# Altium footprint library PWR578A.PcbLib: 62 footprints (part 2 of 4)
Each footprint in its own frame and in the unit in brackets; x right, y up, seen from the top. Pads: shape width x height; smd on the part's side, far side on the other; paste and mask are expansions set on the pad; w line width, h text height; cw(c..) or ccw(c..) is an arc to the next point about the centre after c.
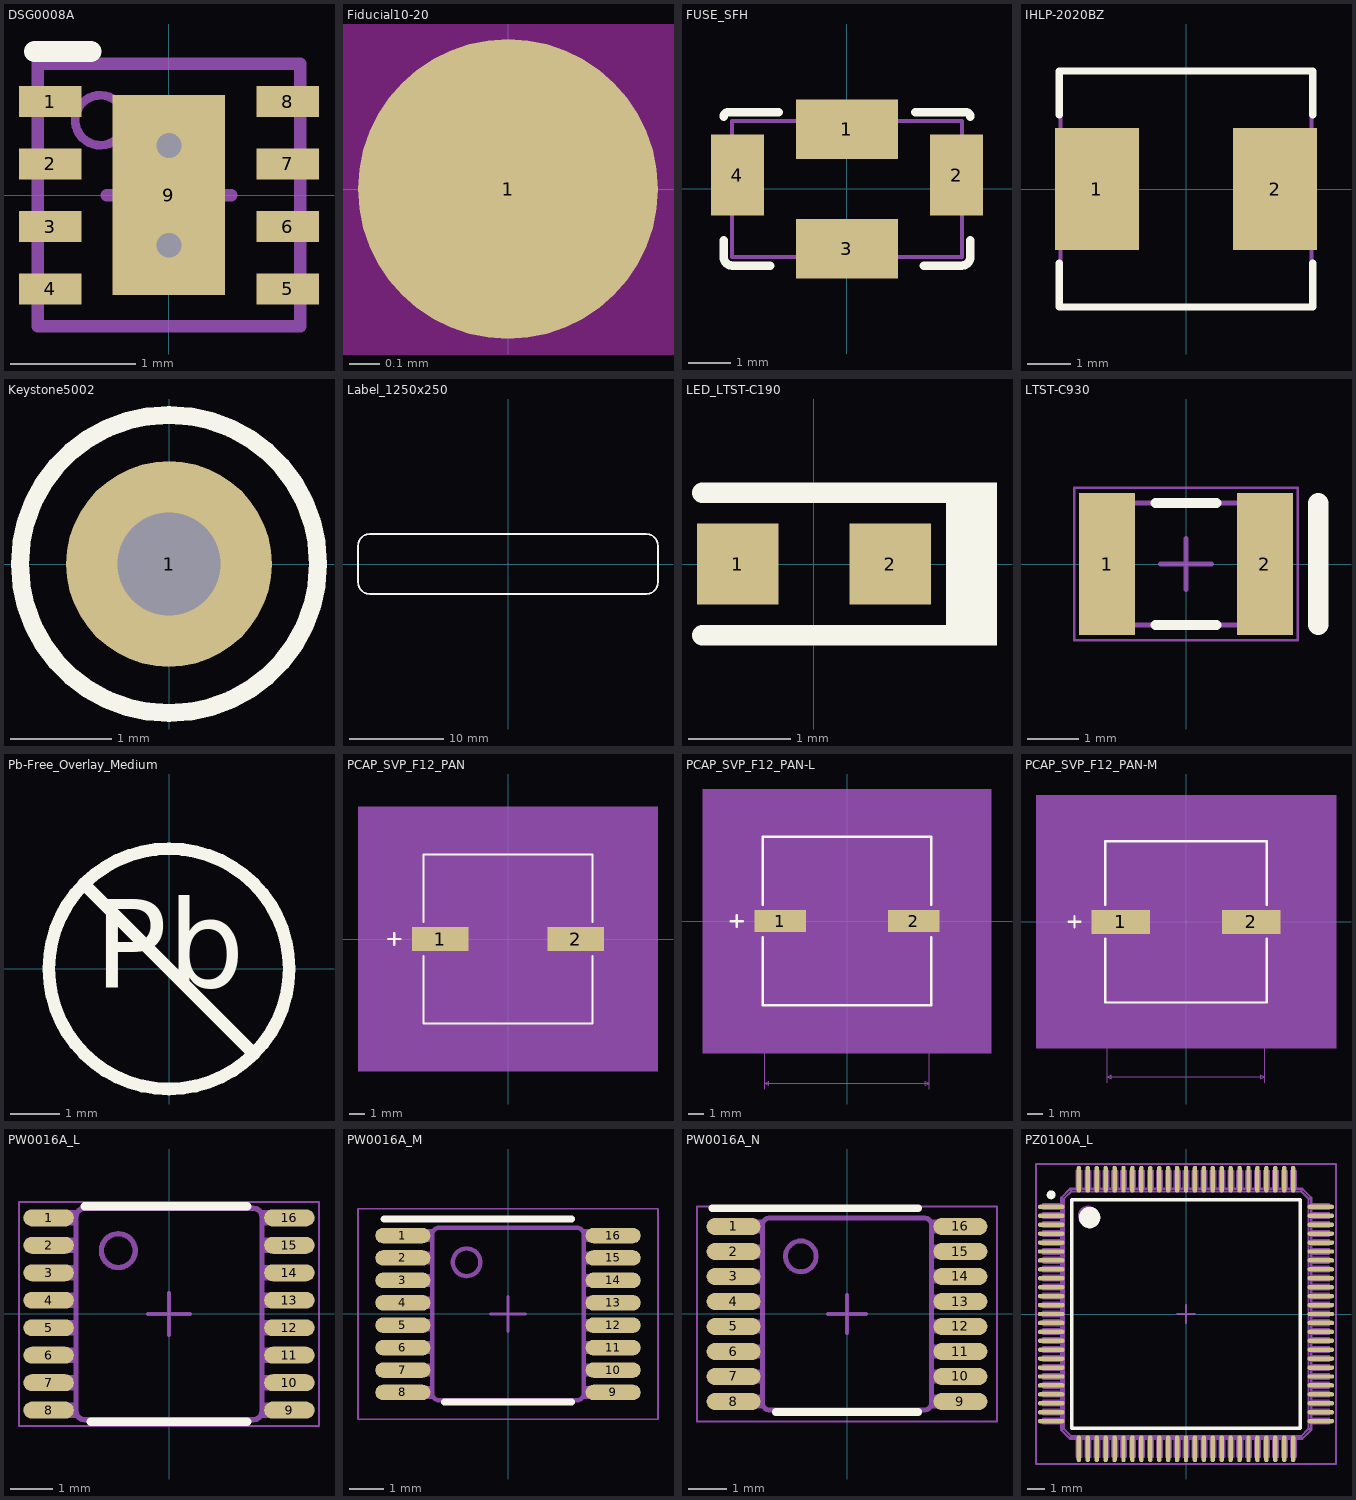
[diagram p1: the footprints below, top view; thin cyan lines are the x and y axes]

## DSG0008A [mm]
pads (9):
  rect 0.5x0.25 smd paste-0.14 mask+0.07: 1(-0.95,0.75) 2(-0.95,0.25) 3(-0.95,-0.25) 4(-0.95,-0.75) 5(0.95,-0.75) 6(0.95,-0.25) 7(0.95,0.25) 8(0.95,0.75)
  rect 0.9x1.6 smd paste-0.45 mask+0.07: 9(0,0)
via 0,0.4 diameter 0.5 hole 0.2
via 0,-0.4 diameter 0.5 hole 0.2
Top Overlay:
  lines w0.17: -1.075,1.15 -0.625,1.15
Top Paste:
  rectangle: 0.7,0.625 1.2,0.875
  rectangle: -0.35,-0.65 0.35,0.65
  rectangle: 0.7,0.125 1.2,0.375
  rectangle: 0.7,-0.875 1.2,-0.625
  rectangle: 0.7,-0.375 1.2,-0.125
  rectangle: -1.199,0.625 -0.699,0.875
  rectangle: -1.199,0.125 -0.699,0.375
  rectangle: -1.2,-0.875 -0.7,-0.625
  rectangle: -1.2,-0.375 -0.7,-0.125
Mechanical 5:
  circle w0.07: c-0.55,0.6 r0.2
  lines w0.1: -1.05,-1.05 1.05,-1.05 1.05,1.05 -1.05,1.05 -1.05,-1.05
  text ".Designator" at -0.925,-0.25 h0.51
Mechanical 15:
  lines w0.1: -0.5,0 0.5,0 ; 0,-0.5 0,0.5
3D body: height 0.8, standoff 0.5, extent -0.749,0.401 -0.351,0.799
3D body: height 0.8, standoff 0, extent -1.05,-1.05 1.05,1.05

## Fiducial10-20 [mm]
pads (1):
  round 1 smd paste-0.5 mask+0.5: 1(0,0)
Top Layer keep-out:
  circle w1.178: c0,0 r0.5

## FUSE_SFH [mm]
pads (4):
  rect 2.4x1.4 smd: 1(0,1.4) 3(0,-1.4)
  rect 1.25x1.9 smd: 2(2.575,0.325) 4(-2.575,0.325)
Top Overlay:
  lines w0.2: -2.9,-1.2 -2.9,-1.6 ccw(c-2.7,-1.6) -2.7,-1.8 -1.8,-1.8 ; -2.9,1.7 cw(c-2.8,1.7) -2.8,1.8 -1.6,1.8 ; 1.6,1.8 2.7,1.8 2.8,1.8 cw(c2.8,1.7) 2.9,1.7 ; 1.8,-1.8 2.7,-1.8 ccw(c2.7,-1.6) 2.9,-1.6 2.9,-1.2
Mechanical 5:
  lines w0.1: -2.7,-1.6 -2.7,1.6 2.7,1.6 2.7,-1.6 -2.7,-1.6
  text ".Designator" at -1.7,-0.4 h1.02
3D body: height 1.35, standoff 0, extent -2.7,-1.6 2.7,1.6
3D body: height 1.36, standoff 1.35, extent -0.2,1.05 0.2,1.45

## IHLP-2020BZ [mm]
pads (2):
  rect 1.915x2.79 smd: 1(-2.037,0) 2(2.037,0)
Top Overlay:
  lines w0.17: -2.9,-1.7 -2.9,-2.7 2.9,-2.7 2.9,-1.7 ; -2.9,1.7 -2.9,2.7 2.9,2.7 2.9,1.7
Mechanical 5:
  lines w0.1: -2.872,-2.717 2.872,-2.717 2.872,2.717 -2.872,2.717 -2.872,-2.717
  text ".Designator" at -1.8,-0.5 h1.02
3D body: height 2, standoff 0, extent -2.871,-2.716 2.871,2.716

## Keystone5002 [mil]
pads (1):
  round 80 hole 40: 1(0,0)
Top Overlay:
  circle w7: c0,0 r58
Mechanical 5:
  circle w5: c0,0 r58.31
  text ".Designator" at -45,-10 h30
3D body "Keystone_5002.stp": height 181.97, standoff -118.11, extent -49,-49 49.04,49.23

## Label_1250x250 [mil]
pads (1):
  round 1 on Mech13: 0(0,0)
Top Overlay:
  lines w7: -625,-75 ccw(c-575,-75) -575,-125 575,-125 ccw(c575,-75) 625,-75 625,75 ccw(c575,75) 575,125 -575,125 ccw(c-575,75) -625,75 -625,-75
Mechanical 5:
  lines w5: -625,-75 ccw(c-575,-75) -575,-125 575,-125 ccw(c575,-75) 625,-75 625,75 ccw(c575,75) 575,125 -575,125 ccw(c-575,75) -625,75 -625,-75
  text ".Designator" at -60,-20 h40
3D body: height 1, standoff 0, extent -625.02,-125.02 625.02,125.02

## LED_LTST-C190 [mm]
pads (2):
  rect 0.8x0.8 smd: 1(-0.75,0) 2(0.75,0)
Top Overlay:
  region: 1.8,0.8 1.3,0.8 1.3,-0.8 1.8,-0.8
  lines w0.2: -1.1,-0.7 1.4,-0.7 ; -1.1,0.7 1.4,0.7
Mechanical 5:
  region: 1.8,0.75 1.3,0.75 1.3,-0.75 1.8,-0.75
  lines w0.1: -1.1,-0.7 1.4,-0.7 ; -1.1,0.7 1.4,0.7
  text ".Designator" at -1.2,-0.3 h0.64
3D body "Lite-On_LTST_C190.stp": height 0.9, standoff 0, extent -0.85,-0.45 0.85,0.45

## LTST-C930 [mm] "SMD, 2-Leads, Body 3.2x2.4mm"
height 2.5
pads (2):
  rect 1.1x2.8 smd: 1(-1.55,0) 2(1.55,0)
Top Overlay:
  lines w0.2: -0.6,-1.2 0.6,-1.2 ; -0.6,1.2 0.6,1.2
  lines w0.4: 2.6,-1.2 2.6,1.2
Mechanical 13:
  lines w0.1: -1.6,-1.2 -1.6,1.2 1.6,1.2 1.6,-1.2 -1.6,-1.2
Mechanical 15:
  lines w0.05: -2.2,-1.5 2.2,-1.5 2.2,1.5 -2.2,1.5 -2.2,-1.5
  lines w0.1: -0.5,0 0.5,0 ; 0,-0.5 0,0.5
3D body: height 2.5, standoff 0, extent -1.1,-1.2 1.1,1.2
3D body: height 1, standoff 0, extent -1.6,-1.2 1.6,1.2

## Pb-Free_Overlay_Medium [mm]
Top Overlay:
  circle w0.254: c0,0 r2.413
  lines w0.254: -1.706,1.706 1.706,-1.706
  text "Pb" at -1.505,-0.961 h3.05

## PCAP_SVP_F12_PAN [mil]
pads (2):
  rect 142x59 smd paste+0 mask+0: 1(-169.5,0) 2(169.5,0)
Top Overlay:
  lines w6: -299.5,0 -269.5,0 ; -284.5,-15 -284.5,15 ; -211.5,-42.6 -211.5,-211.5 211.5,-211.5 211.5,-42.6 ; -211.5,42.6 -211.5,211.5 211.5,211.5 211.5,42.6
Mechanical 5:
  region: 375.5,-331.5 -375.5,-331.5 -375.5,331.5 375.5,331.5
Mechanical 7:
  lines w1: -321.5,-206.5 -206.5,-206.5 ; -321.5,206.5 -206.5,206.5 ; -270.5,-306.5 -220.5,-306.5 ; -220.5,-321.5 -220.5,-39.5 ; -220.5,39.5 -220.5,321.5 ; -94.5,-321.5 -94.5,-19.5 ; -44.5,-306.5 -94.5,-306.5 ; 220.5,39.5 220.5,321.5 ; 250.5,-21.5 355.5,-21.5 ; 250.5,21.5 355.5,21.5 ; 340.5,-71.5 340.5,-21.5 ; 340.5,71.5 340.5,21.5 ; -306.5,-206.5 -301.5,-196.5 -311.5,-196.5 -306.5,-206.5 ; -306.5,-206.5 -306.5,206.5 ; -306.5,206.5 -301.5,196.5 -311.5,196.5 -306.5,206.5 ; -220.5,-306.5 -230.5,-311.5 -230.5,-301.5 -220.5,-306.5 ; -220.5,306.5 -210.5,301.5 -210.5,311.5 -220.5,306.5 ; -220.5,306.5 220.5,306.5 ; -94.5,-306.5 -84.5,-311.5 -84.5,-301.5 -94.5,-306.5 ; 220.5,306.5 210.5,301.5 210.5,311.5 220.5,306.5 ; 340.5,-21.5 345.5,-31.5 335.5,-31.5 340.5,-21.5 ; 340.5,21.5 345.5,31.5 335.5,31.5 340.5,21.5
  text "0.126in/3.2mm" at -238.75,-351.5 h25
  text "0.441in/11.201mm" at -100,326.5 h25
Mechanical 13:
  lines w1: -299.5,0 -269.5,0 ; -284.5,-15 -284.5,15 ; -206.5,-103.25 -103.25,-206.5 ; -206.5,103.25 -103.25,206.5 ; -206.5,-206.5 -206.5,206.5 206.5,206.5 206.5,-206.5 -206.5,-206.5
Mechanical 15:
  region: -216.5,-39.5 -250.5,-39.5 -250.5,39.5 -216.5,39.5 -216.5,216.5 216.5,216.5 216.5,39.5 250.5,39.5 250.5,-39.5 216.5,-39.5 216.5,-216.5 -216.5,-216.5
  lines w6: -250.5,-39.5 -216.5,-39.5 -216.5,-216.5 216.5,-216.5 216.5,-39.5 250.5,-39.5 250.5,39.5 216.5,39.5 216.5,216.5 -216.5,216.5 -216.5,39.5 -250.5,39.5 -250.5,-39.5
3D body: height 10, standoff 0, extent 0,0 10,10

## PCAP_SVP_F12_PAN-L [mil]
pads (2):
  rect 130x55 smd paste+0 mask+0: 1(-167.5,0) 2(167.5,0)
Top Overlay:
  lines w6: -291.5,0 -261.5,0 ; -276.5,-15 -276.5,15 ; -211.5,-40.6 -211.5,-211.5 211.5,-211.5 211.5,-40.6 ; -211.5,40.6 -211.5,211.5 211.5,211.5 211.5,40.6
Mechanical 5:
  region: 361.5,-331.5 -361.5,-331.5 -361.5,331.5 361.5,331.5
Mechanical 7:
  lines w1: -321.5,-206.5 -206.5,-206.5 -206.5,-421.5 ; -321.5,206.5 -206.5,206.5 ; -270.5,-306.5 -220.5,-306.5 ; -220.5,-321.5 -220.5,-37.5 ; -220.5,37.5 -220.5,321.5 ; -94.5,-321.5 -94.5,-17.5 ; -44.5,-306.5 -94.5,-306.5 ; 206.5,-421.5 206.5,-206.5 ; 220.5,37.5 220.5,321.5 ; 242.5,-21.5 347.5,-21.5 ; 242.5,21.5 347.5,21.5 ; 332.5,-71.5 332.5,-21.5 ; 332.5,71.5 332.5,21.5 ; -306.5,-206.5 -301.5,-196.5 -311.5,-196.5 -306.5,-206.5 ; -306.5,-206.5 -306.5,206.5 ; -306.5,206.5 -301.5,196.5 -311.5,196.5 -306.5,206.5 ; -220.5,-306.5 -230.5,-311.5 -230.5,-301.5 -220.5,-306.5 ; -220.5,306.5 -210.5,301.5 -210.5,311.5 -220.5,306.5 ; -220.5,306.5 220.5,306.5 ; -206.5,-406.5 -196.5,-411.5 -196.5,-401.5 -206.5,-406.5 ; -206.5,-406.5 206.5,-406.5 ; -94.5,-306.5 -84.5,-311.5 -84.5,-301.5 -94.5,-306.5 ; 206.5,-406.5 196.5,-411.5 196.5,-401.5 206.5,-406.5 ; 220.5,306.5 210.5,301.5 210.5,311.5 220.5,306.5 ; 332.5,-21.5 337.5,-31.5 327.5,-31.5 332.5,-21.5 ; 332.5,21.5 337.5,31.5 327.5,31.5 332.5,21.5
  text "0.413in/10.49mm" at -93.75,-451.5 h25
  text "0.126in/3.2mm" at -238.75,-351.5 h25
  text "0.413in/10.49mm" at -514,-12.5 h25
  text "0.441in/11.201mm" at -100,326.5 h25
  text "0.043in/1.092mm" at 352.5,-12.5 h25
  text "Alternate 2 Padstyle: OX90Y60D30P" at -412.5,-647.5 h50
  text "Alternate 1 Padstyle: OX60Y90D30P" at -412.5,-547.5 h50
  text "Default Padstyle: RX130Y55D0T" at -362.5,-447.5 h50
Mechanical 13:
  lines w1: -291.5,0 -261.5,0 ; -276.5,-15 -276.5,15 ; -206.5,-103.25 -103.25,-206.5 ; -206.5,103.25 -103.25,206.5 ; -206.5,-206.5 -206.5,206.5 206.5,206.5 206.5,-206.5 -206.5,-206.5
Mechanical 15:
  region: -210.5,-31.5 -236.5,-31.5 -236.5,31.5 -210.5,31.5 -210.5,210.5 210.5,210.5 210.5,31.5 236.5,31.5 236.5,-31.5 210.5,-31.5 210.5,-210.5 -210.5,-210.5
  lines w6: -236.5,-31.5 -210.5,-31.5 -210.5,-210.5 210.5,-210.5 210.5,-31.5 236.5,-31.5 236.5,31.5 210.5,31.5 210.5,210.5 -210.5,210.5 -210.5,31.5 -236.5,31.5 -236.5,-31.5
3D body: height 10, standoff 0, extent 0,0 10,10

## PCAP_SVP_F12_PAN-M [mil]
pads (2):
  rect 154x63 smd paste+0 mask+0: 1(-171.5,0) 2(171.5,0)
Top Overlay:
  lines w6: -307.5,0 -277.5,0 ; -292.5,-15 -292.5,15 ; -211.5,-44.6 -211.5,-211.5 211.5,-211.5 211.5,-44.6 ; -211.5,44.6 -211.5,211.5 211.5,211.5 211.5,44.6
Mechanical 5:
  region: 393.5,-331.5 -393.5,-331.5 -393.5,331.5 393.5,331.5
Mechanical 7:
  lines w1: -321.5,-206.5 -206.5,-206.5 -206.5,-421.5 ; -321.5,206.5 -206.5,206.5 ; -270.5,-306.5 -220.5,-306.5 ; -220.5,-321.5 -220.5,-41.5 ; -220.5,41.5 -220.5,321.5 ; -94.5,-321.5 -94.5,-21.5 ; -44.5,-306.5 -94.5,-306.5 ; 206.5,-421.5 206.5,-206.5 ; 220.5,41.5 220.5,321.5 ; 258.5,-21.5 363.5,-21.5 ; 258.5,21.5 363.5,21.5 ; 348.5,-71.5 348.5,-21.5 ; 348.5,71.5 348.5,21.5 ; -306.5,-206.5 -306.5,206.5 ; -306.5,-206.5 -311.5,-196.5 -301.5,-196.5 -306.5,-206.5 ; -306.5,206.5 -311.5,196.5 -301.5,196.5 -306.5,206.5 ; -220.5,-306.5 -230.5,-301.5 -230.5,-311.5 -220.5,-306.5 ; -220.5,306.5 220.5,306.5 ; -220.5,306.5 -210.5,311.5 -210.5,301.5 -220.5,306.5 ; -206.5,-406.5 206.5,-406.5 ; -206.5,-406.5 -196.5,-401.5 -196.5,-411.5 -206.5,-406.5 ; -94.5,-306.5 -84.5,-301.5 -84.5,-311.5 -94.5,-306.5 ; 206.5,-406.5 196.5,-401.5 196.5,-411.5 206.5,-406.5 ; 220.5,306.5 210.5,311.5 210.5,301.5 220.5,306.5 ; 348.5,-21.5 343.5,-31.5 353.5,-31.5 348.5,-21.5 ; 348.5,21.5 343.5,31.5 353.5,31.5 348.5,21.5
  text "Default Padstyle: RX154Y63D0T" at -362.5,-443.5 h50
  text "Alternate 1 Padstyle: OX60Y90D30P" at -412.5,-543.5 h50
  text "Alternate 2 Padstyle: OX90Y60D30P" at -412.5,-643.5 h50
  text "0.043in/1.092mm" at 368.5,-12.5 h25
  text "0.441in/11.201mm" at -100,326.5 h25
  text "0.413in/10.49mm" at -514,-12.5 h25
  text "0.126in/3.2mm" at -238.75,-351.5 h25
  text "0.413in/10.49mm" at -93.75,-451.5 h25
Mechanical 13:
  lines w1: -307.5,0 -277.5,0 ; -292.5,-15 -292.5,15 ; -206.5,-103.25 -103.25,-206.5 ; -206.5,103.25 -103.25,206.5 ; -206.5,-206.5 206.5,-206.5 206.5,206.5 -206.5,206.5 -206.5,-206.5
Mechanical 15:
  region: -226.5,-51.5 -268.5,-51.5 -268.5,51.5 -226.5,51.5 -226.5,226.5 226.5,226.5 226.5,51.5 268.5,51.5 268.5,-51.5 226.5,-51.5 226.5,-226.5 -226.5,-226.5
  lines w6: -268.5,-51.5 -268.5,51.5 -226.5,51.5 -226.5,226.5 226.5,226.5 226.5,51.5 268.5,51.5 268.5,-51.5 226.5,-51.5 226.5,-226.5 -226.5,-226.5 -226.5,-51.5 -268.5,-51.5
3D body: height 10, standoff 0, extent 0,0 10,10
3D body: height 39.37, standoff 0, extent -708.66,381.89 -708.66,381.89

## PW0016A_L [mm]
pads (16):
  oval 1.2x0.4 smd paste+0 mask+0.051: 1(-2.85,2.275) 2(-2.85,1.625) 3(-2.85,0.975) 4(-2.85,0.325) 5(-2.85,-0.325) 6(-2.85,-0.975) 7(-2.85,-1.625) 8(-2.85,-2.275) 9(2.85,-2.275) 10(2.85,-1.625) 11(2.85,-0.975) 12(2.85,-0.325) 13(2.85,0.325) 14(2.85,0.975) 15(2.85,1.625) 16(2.85,2.275)
Top Overlay:
  lines w0.2: -2,2.55 1.85,2.55 ; -1.85,-2.55 1.85,-2.55
Mechanical 13:
  drawing of 202 lines, arcs and shapes, not listed
Mechanical 15:
  lines w0.05: -3.55,-2.65 3.55,-2.65 3.55,2.65 -3.55,2.65 -3.55,-2.65
  lines w0.1: -0.5,0 0.5,0 ; 0,-0.5 0,0.5

## PW0016A_M [mm]
pads (16):
  oval 1.6x0.45 smd paste+0 mask+0.051: 1(-3.05,2.275) 2(-3.05,1.625) 3(-3.05,0.975) 4(-3.05,0.325) 5(-3.05,-0.325) 6(-3.05,-0.975) 7(-3.05,-1.625) 8(-3.05,-2.275) 9(3.05,-2.275) 10(3.05,-1.625) 11(3.05,-0.975) 12(3.05,-0.325) 13(3.05,0.325) 14(3.05,0.975) 15(3.05,1.625) 16(3.05,2.275)
Top Overlay:
  lines w0.2: -3.6,2.75 1.85,2.75 ; -1.85,-2.55 1.85,-2.55
Mechanical 13:
  drawing of 202 lines, arcs and shapes, not listed
Mechanical 15:
  lines w0.05: -4.35,-3.05 -4.35,3.05 4.35,3.05 4.35,-3.05 -4.35,-3.05
  lines w0.1: -0.5,0 0.5,0 ; 0,-0.5 0,0.5

## PW0016A_N [mm]
pads (16):
  oval 1.4x0.45 smd paste+0 mask+0.051: 1(-2.95,2.275) 2(-2.95,1.625) 3(-2.95,0.975) 4(-2.95,0.325) 5(-2.95,-0.325) 6(-2.95,-0.975) 7(-2.95,-1.625) 8(-2.95,-2.275) 9(2.95,-2.275) 10(2.95,-1.625) 11(2.95,-0.975) 12(2.95,-0.325) 13(2.95,0.325) 14(2.95,0.975) 15(2.95,1.625) 16(2.95,2.275)
Top Overlay:
  lines w0.2: -3.5,2.75 1.85,2.75 ; -1.85,-2.55 1.85,-2.55
Mechanical 13:
  drawing of 202 lines, arcs and shapes, not listed
Mechanical 15:
  lines w0.05: -3.9,-2.8 3.9,-2.8 3.9,2.8 -3.9,2.8 -3.9,-2.8
  lines w0.1: -0.5,0 0.5,0 ; 0,-0.5 0,0.5

## PZ0100A_L [mm]
pads (100):
  oval 1.5x0.25 smd paste+0 mask+0.051: 1(-7.55,6) 2(-7.55,5.5) 3(-7.55,5) 4(-7.55,4.5) 5(-7.55,4) 6(-7.55,3.5) 7(-7.55,3) 8(-7.55,2.5) 9(-7.55,2) 10(-7.55,1.5) 11(-7.55,1) 12(-7.55,0.5) 13(-7.55,0) 14(-7.55,-0.5) 15(-7.55,-1) 16(-7.55,-1.5) 17(-7.55,-2) 18(-7.55,-2.5) 19(-7.55,-3) 20(-7.55,-3.5) 21(-7.55,-4) 22(-7.55,-4.5) 23(-7.55,-5) 24(-7.55,-5.5) 25(-7.55,-6) 51(7.55,-6) 52(7.55,-5.5) 53(7.55,-5) 54(7.55,-4.5) 55(7.55,-4) 56(7.55,-3.5) 57(7.55,-3) 58(7.55,-2.5) 59(7.55,-2) 60(7.55,-1.5) 61(7.55,-1) 62(7.55,-0.5) 63(7.55,0) 64(7.55,0.5) 65(7.55,1) 66(7.55,1.5) 67(7.55,2) 68(7.55,2.5) 69(7.55,3) 70(7.55,3.5) 71(7.55,4) 72(7.55,4.5) 73(7.55,5) 74(7.55,5.5) 75(7.55,6)
  oval 0.25x1.5 smd paste+0 mask+0.051: 26(-6,-7.55) 27(-5.5,-7.55) 28(-5,-7.55) 29(-4.5,-7.55) 30(-4,-7.55) 31(-3.5,-7.55) 32(-3,-7.55) 33(-2.5,-7.55) 34(-2,-7.55) 35(-1.5,-7.55) 36(-1,-7.55) 37(-0.5,-7.55) 38(0,-7.55) 39(0.5,-7.55) 40(1,-7.55) 41(1.5,-7.55) 42(2,-7.55) 43(2.5,-7.55) 44(3,-7.55) 45(3.5,-7.55) 46(4,-7.55) 47(4.5,-7.55) 48(5,-7.55) 49(5.5,-7.55) 50(6,-7.55) 76(6,7.55) 77(5.5,7.55) 78(5,7.55) 79(4.5,7.55) 80(4,7.55) 81(3.5,7.55) 82(3,7.55) 83(2.5,7.55) 84(2,7.55) 85(1.5,7.55) 86(1,7.55) 87(0.5,7.55) 88(0,7.55) 89(-0.5,7.55) 90(-1,7.55) 91(-1.5,7.55) 92(-2,7.55) 93(-2.5,7.55) 94(-3,7.55) 95(-3.5,7.55) 96(-4,7.55) 97(-4.5,7.55) 98(-5,7.55) 99(-5.5,7.55) 100(-6,7.55)
Top Overlay:
  circle w0.25: c-7.55,6.675 r0.125
  circle w0.6: c-5.4,5.4 r0.3
  lines w0.2: -6.4,-6.4 -6.4,6.4 6.4,6.4 6.4,-6.4 -6.4,-6.4
Mechanical 13:
  drawing of 1326 lines, arcs and shapes, not listed
Mechanical 15:
  lines w0.1: -0.5,0 0.5,0 ; 0,-0.5 0,0.5 ; -8.4,-8.4 -8.4,8.4 8.4,8.4 8.4,-8.4 -8.4,-8.4
3D body: height 0.25, standoff 0, extent 0,0 0.254,0.254
3D body "PZ0100A.stp": height 1.5, standoff 0, extent -8.011,-8.011 8.012,8.012